# EAGLE library part HFJ11-1G01ERL (library CONNECTORs)
Modular Connectors / Ethernet Connectors GIGABIT 1x1 Tab Down RJ45 w/mag No LED
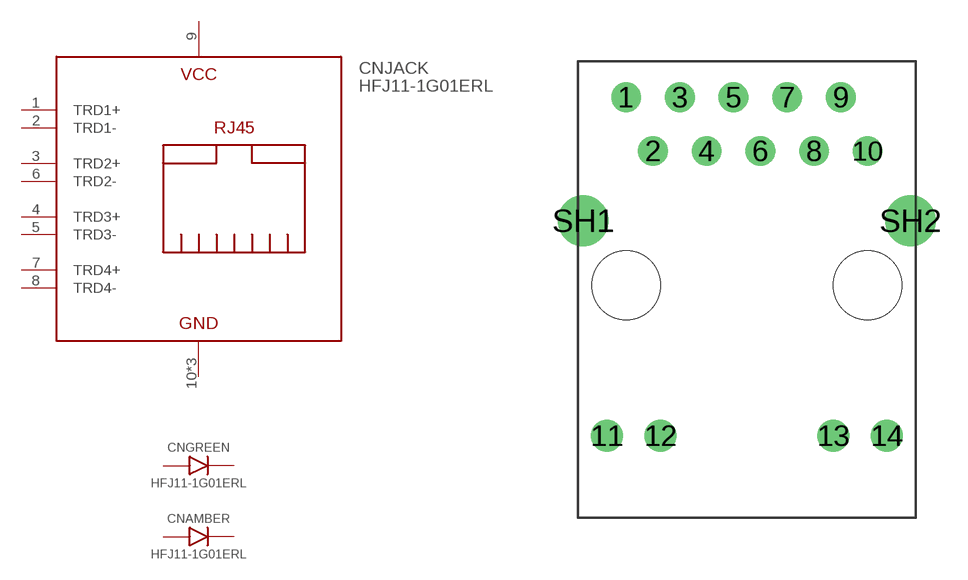
[diagram p97: symbol with the pads of HFJ11-1G; footprint HFJ11-1G]

Designator prefix CN; gates JACK=ETHERNET GREEN=DIODE AMBER=DIODE

## HFJ11-1G01ERL (HEIGHT: 16; MOUSER: 493-HFJ11-1G01ERL; PRICE_PER: 12.77; VALUE: HFJ11-1G01ERL)  [HFJ11-1G]
1  JACK:TRD1+
2  JACK:TRD1-
3  JACK:TRD2+
4  JACK:TRD3+
5  JACK:TRD3-
6  JACK:TRD2-
7  JACK:TRD4+
8  JACK:TRD4-
9  JACK:VCC
10  JACK:GND
11  GREEN:A
12  GREEN:K
13  AMBER:A
14  AMBER:K
SH1  JACK:GND
SH2  JACK:GND

## Footprint HFJ11-1G (pad centres in mm)
drill 0.9: 1 -5.715,8.89; 2 -4.445,6.35; 3 -3.175,8.89; 4 -1.905,6.35; 5 -0.635,8.89; 6 0.635,6.35; 7 1.905,8.89; 8 3.175,6.35; 9 4.445,8.89; 10 5.715,6.35
drill 1: 11 -6.63,-7.11; 12 -4.09,-7.11; 13 4.09,-7.11; 14 6.63,-7.11
drill 1.6: SH1 -7.745,3.05; SH2 7.745,3.05
hole 3.25 at 5.715,0
hole 3.25 at -5.715,0